# Altium footprint library K7_CORE_20201210.PcbLib: 24 footprints (part 2 of 2)
Each footprint in its own frame and in the unit in brackets; x right, y up, seen from the top. Pads: shape width x height; smd on the part's side, far side on the other; paste and mask are expansions set on the pad; w line width, h text height; cw(c..) or ccw(c..) is an arc to the next point about the centre after c.
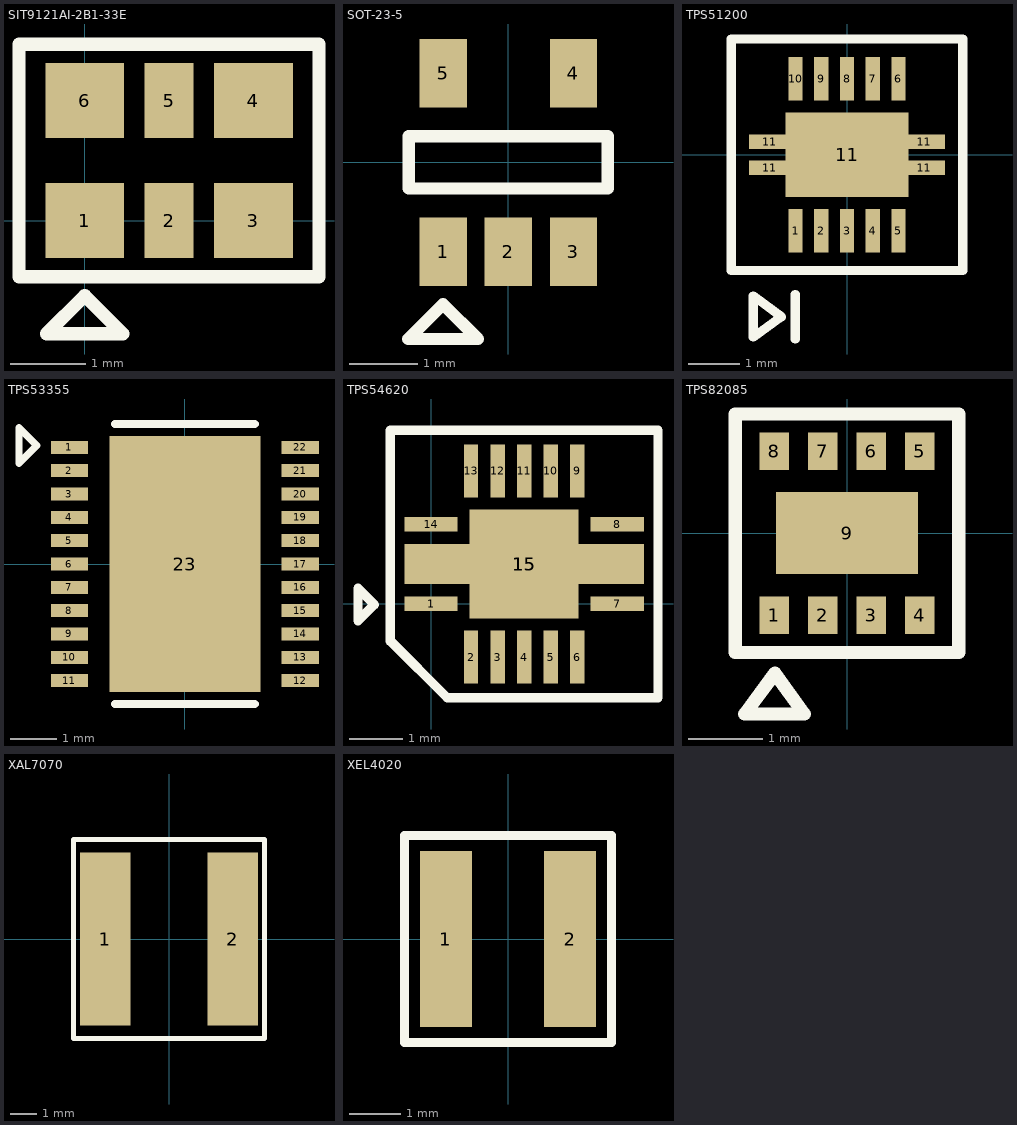
[diagram p1: the footprints below, top view; thin cyan lines are the x and y axes]

## SIT9121AI-2B1-33E [mm]
pads (6):
  rect 1.05x1 smd: 1(0,0) 3(2.25,0) 4(2.25,1.6) 6(0,1.6)
  rect 0.65x1 smd: 2(1.125,0) 5(1.125,1.6)
Top Overlay:
  lines w0.178: -0.875,-0.75 -0.875,2.35 3.125,2.35 3.125,-0.75 -0.875,-0.75 ; -0.508,-1.508 0,-1 0.508,-1.508 -0.508,-1.508

## SOT-23-5 [mm]
pads (5):
  rect 0.69x1 smd: 1(-0.95,-1.3) 2(0,-1.3) 3(0.95,-1.3) 4(0.95,1.3) 5(-0.95,1.3)
Top Overlay:
  lines w0.178: -1.458,-2.575 -0.95,-2.067 -0.442,-2.575 -1.458,-2.575 ; -1.45,-0.381 -1.45,0.381 1.45,0.381 1.45,-0.381 -1.45,-0.381

## TPS51200 [mm]
pads (15):
  rect 0.279x0.85 smd: 1(-1,-1.475) 2(-0.5,-1.475) 3(0,-1.475) 4(0.5,-1.475) 5(1,-1.475) 6(1,1.475) 7(0.5,1.475) 8(0,1.475) 9(-0.5,1.475) 10(-1,1.475)
  rect 0.8x0.28 smd: 11(-1.5,-0.25) 11(-1.5,0.25) 11(1.5,-0.25) 11(1.5,0.25)
  rect 2.4x1.65 smd: 11(0,0)
Top Overlay:
  lines w0.178: -1.007,-3.58 -1.007,-2.717 ; -2.25,-2.25 -2.25,2.25 2.25,2.25 2.25,-2.25 -2.25,-2.25 ; -1.821,-3.543 -1.821,-2.743 -1.275,-3.151 -1.821,-3.543

## TPS53355 [mm]
pads (23):
  rect 0.8x0.28 smd: 1(-2.475,2.5) 2(-2.475,2) 3(-2.475,1.5) 4(-2.475,1) 5(-2.475,0.5) 6(-2.475,0) 7(-2.475,-0.5) 8(-2.475,-1) 9(-2.475,-1.5) 10(-2.475,-2) 11(-2.475,-2.5) 12(2.475,-2.5) 13(2.475,-2) 14(2.475,-1.5) 15(2.475,-1) 16(2.475,-0.5) 17(2.475,0) 18(2.475,0.5) 19(2.475,1) 20(2.475,1.5) 21(2.475,2) 22(2.475,2.5)
  rect 3.24x5.48 smd: 23(0,0)
Top Overlay:
  lines w0.15: -3.556,2.159 -3.556,2.921 -3.175,2.54 -3.556,2.159
  lines w0.178: -1.5,-3 1.5,-3 ; -1.5,3 1.5,3

## TPS54620 [mm]
pads (16):
  rect 1x0.27 smd: 1(0,0) 7(3.5,0) 8(3.5,1.5) 14(0,1.5)
  rect 0.27x1 smd: 2(0.75,-1) 3(1.25,-1) 4(1.75,-1) 5(2.25,-1) 6(2.75,-1) 9(2.75,2.5) 10(2.25,2.5) 11(1.75,2.5) 12(1.25,2.5) 13(0.75,2.5)
  rect 4.5x0.75 smd: 15(1.75,0.75)
  rect 2.05x2.05 smd: 15(1.75,0.75)
Top Overlay:
  lines w0.178: -1.374,-0.317 -1.069,-0.012 -1.374,0.293 -1.374,-0.317 ; -0.765,-0.698 0.302,-1.765 4.265,-1.765 4.265,3.265 -0.765,3.265 -0.765,-0.698

## TPS82085 [mm]
pads (9):
  rect 0.4x0.5 smd: 1(-0.975,-1.1) 2(-0.325,-1.1) 3(0.325,-1.1) 4(0.975,-1.1) 5(0.975,1.1) 6(0.325,1.1) 7(-0.325,1.1) 8(-0.975,1.1)
  rect 1.9x1.1 smd: 9(0,0)
Top Overlay:
  lines w0.178: -1.5,-1.6 -1.5,1.6 1.5,1.6 1.5,-1.6 -1.5,-1.6 ; -1.373,-2.426 -0.965,-1.88 -0.573,-2.426 -1.373,-2.426

## XAL7070 [mm]
pads (2):
  rect 1.9x6.5 smd: 1(-2.4,0) 2(2.4,0)
Top Overlay:
  lines w0.178: -3.6,-3.75 3.6,-3.75 3.6,3.75 -3.6,3.75 -3.6,-3.75

## XEL4020 [mm]
pads (2):
  rect 1x3.4 smd: 1(-1.2,0) 2(1.2,0)
Top Overlay:
  lines w0.178: -2,-2 2,-2 2,2 -2,2 -2,-2